# Altium footprint library Pedal_PCB.PcbLib: 12 footprints
Each footprint in its own frame and in the unit in brackets; x right, y up, seen from the top. Pads: shape width x height; smd on the part's side, far side on the other; paste and mask are expansions set on the pad; w line width, h text height; cw(c..) or ccw(c..) is an arc to the next point about the centre after c.
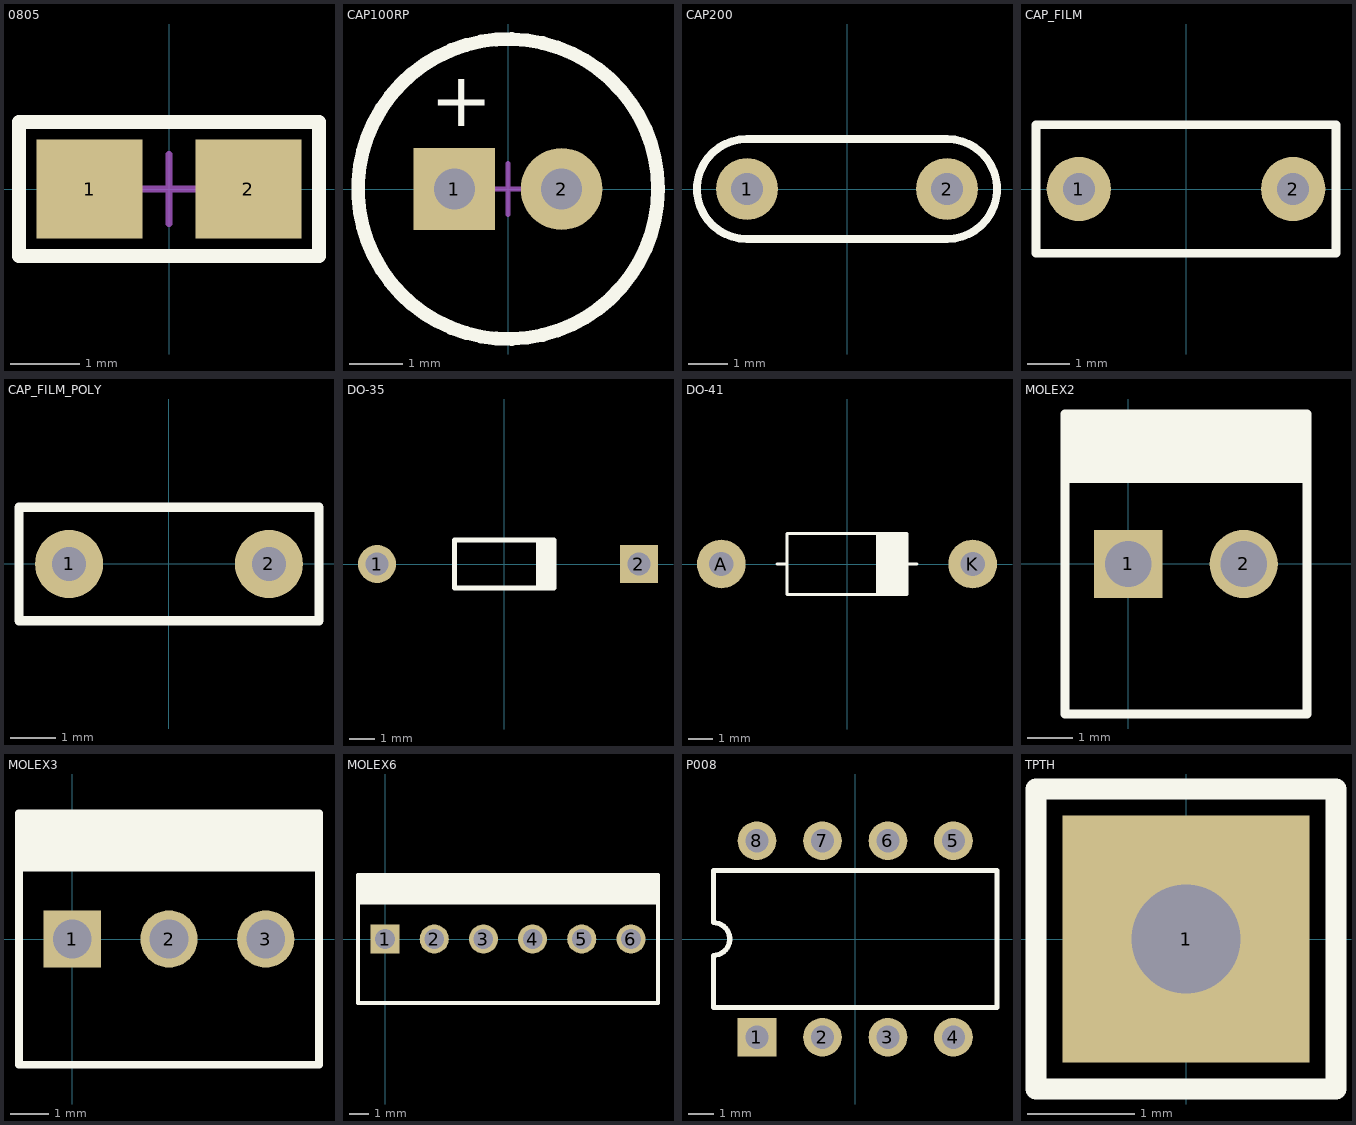
[diagram p0: the footprints below, top view; thin cyan lines are the x and y axes]

## 0805 [mil] "Pasivo 0805"
height 27.56
pads (2):
  rect 60x56 smd: 1(-45,0) 2(45,0)
Top Overlay:
  lines w7.87: -85,-38 -85,38 85,38 85,-38 -85,-38
Mechanical 15:
  lines w3.94: -19.69,0 19.68,0 ; 0,-19.68 0,19.68
3D body "0805.STEP": height 15.35, standoff -0.79, extent -39.5,-24.5 39.24,24.71

## CAP100RP [mil] "Body diameter 5mm"
pads (2):
  rect 60x60 hole 30: 1(-39.37,0)
  round 60 hole 30: 2(39.37,0)
Top Overlay:
  circle w10: c0,0 r110
  text "+" at -57,46 h40
Mechanical 15:
  lines w3.94: -18.7,0 18.7,0 ; 0,-18.7 0,18.7
3D body "User Library-Cap electro 5x11x2mm.step": height 453.76, standoff -128.81, extent -99.43,-99 99.43,99.85

## CAP200 [mil]
pads (2):
  round 62 hole 32: 1(-100,0) 2(100,0)
Top Overlay:
  lines w7.87: -100,-50 cw(c-100,0) -100,50 100,50 cw(c100,0) 100,-50 -100,-50
3D body "CAP200.step": height 245.67, standoff -54.33, extent -110,-46 110,44

## CAP_FILM [mm]
pads (2):
  round 1.5 hole 0.75: 1(-2.5,0) 2(2.5,0)
Top Overlay:
  lines w0.2: -3.5,-1.5 3.5,-1.5 3.5,1.5 -3.5,1.5 -3.5,-1.5
3D body "f612jf104j100a.stp": height 7, standoff -15.5, extent -3.6,-1.27 3.6,1.235

## CAP_FILM_POLY [mm]
pads (2):
  round 1.5 hole 0.75: 1(-2.2,0) 2(2.2,0)
Top Overlay:
  lines w0.2: -3.302,-1.25 3.302,-1.25 3.302,1.25 -3.302,1.25 -3.302,-1.25
3D body "User Library-RAD CAP 12MM.STEP": height 16.1, standoff -15.82, extent -6,-3.302 6,3.198

## DO-35 [mm] "Diode, Axial; Body 3.8 x 1.9 mm (LxDia. max), Lead Dia. 0.53 mm (max)"
height 1.9
pads (2):
  round 1.5 hole 0.9: 1(-5,0)
  rect 1.5x1.5 hole 0.9: 2(5.3,0)
Top Overlay:
  rectangle: 1.25,-0.95 2.05,0.95
  lines w0.2: 1.95,-0.95 -1.95,-0.95 -1.95,0.95 1.95,0.95
3D body "User Library-do_35.step": height 2.15, standoff -2.54, extent -5.22,-0.889 5.474,0.864

## DO-41 [mil]
pads (2):
  round 80 hole 40: A(-206.69,0) K(206.69,0)
Top Overlay:
  rectangle: 48.43,-50 98.43,50
  lines w5: -115,0 -100,0 ; 50,-50 50,50 ; 100,0 115,0 ; -98.43,-50 -98.43,50 98.43,50 98.43,-50 -98.43,-50
3D body "User Library-DO-41-4.step": height 112.6, standoff -92.52, extent -223.62,-53.55 223.62,53.54

## MOLEX2 [mm]
pads (2):
  rect 1.5x1.5 hole 1.016: 1(0,0)
  round 1.5 hole 1.016: 2(2.54,0)
Top Overlay:
  rectangle: -1.397,1.778 3.937,3.302
  lines w0.2: -1.397,-3.302 3.937,-3.302 3.937,3.302 -1.397,3.302 -1.397,-3.302
3D body "MOLEX2.STEP": height 10.74, standoff -3.48, extent -1.27,-3.175 3.81,3.175

## MOLEX3 [mm]
pads (3):
  rect 1.5x1.5 hole 1.016: 1(0,0)
  round 1.5 hole 1.016: 2(2.54,0) 3(5.08,0)
Top Overlay:
  rectangle: -1.397,1.778 6.477,3.302
  lines w0.2: -1.397,-3.302 -1.397,3.302 6.477,3.302 6.477,-3.302 -1.397,-3.302
3D body "MOLEX3.STEP": height 10.74, standoff -3.48, extent -1.27,-3.175 6.35,3.175

## MOLEX6 [mm]
pads (6):
  rect 1.5x1.5 hole 1.016: 1(0,0)
  round 1.5 hole 1.016: 2(2.54,0) 3(5.08,0) 4(7.62,0) 5(10.16,0) 6(12.7,0)
Top Overlay:
  region: 14.097,3.302 -1.397,3.302 -1.397,1.778 14.097,1.778
  lines w0.2: -1.397,-3.302 -1.397,3.302 14.097,3.302 14.097,-3.302 -1.397,-3.302
3D body "MOLEX3.STEP": height 10.74, standoff -3.48, extent -1.27,-3.175 6.35,3.175
3D body "MOLEX3.STEP": height 10.74, standoff -3.48, extent 3.81,-3.175 11.43,3.175
3D body "MOLEX3.STEP": height 10.74, standoff -3.48, extent 6.35,-3.175 13.97,3.175

## P008 [mm] "DIP; 8 Leads; Row Spacing 7.62 mm; Pitch 2.54 mm"
height 5.08
pads (8):
  rect 1.5x1.5 hole 0.9: 1(-3.81,-3.81)
  round 1.5 hole 0.9: 2(-1.27,-3.81) 3(1.27,-3.81) 4(3.81,-3.81) 5(3.81,3.81) 6(1.27,3.81) 7(-1.27,3.81) 8(-3.81,3.81)
Top Overlay:
  lines w0.2: -5.5,-2.65 5.5,-2.65 5.5,2.65 -5.5,2.65 -5.5,0.635 cw(c-5.5,0) -5.5,-0.635 -5.5,-2.65
3D body "CircuitWorks-DIP8.step": height 4.19, standoff -2.67, extent -5.715,-3.81 5.715,4.064

## TPTH [mm]
pads (1):
  rect 2.3x2.3 hole 1.016: 1(0,0)
Top Overlay:
  lines w0.2: -1.397,-1.397 -1.397,1.397 1.397,1.397 1.397,-1.397 -1.397,-1.397
3D body "User Library-Header Vertical 2_54mm Pitch2-1.step": height 6.04, standoff -2.84, extent -1.27,-1.27 1.27,1.27